# EAGLE library part AT89C55WD-24PU (library Fuckboiz)
8051 Microprocessor Jeremiah Ohlman
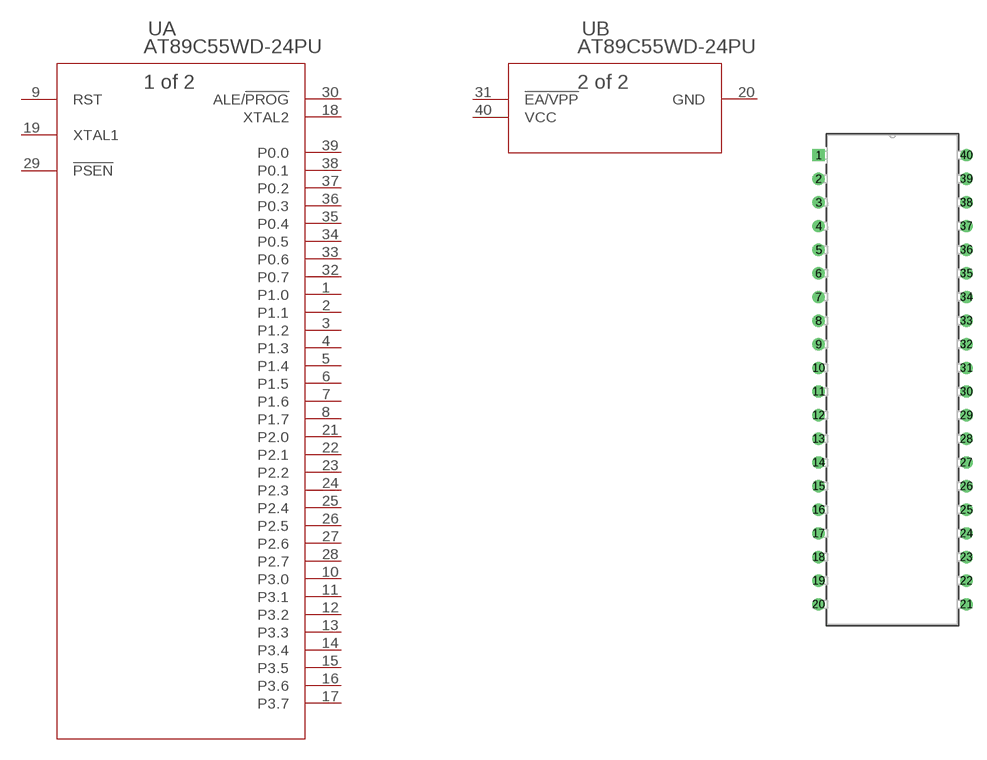
[diagram p8: symbol with the pads of 40P6; footprint 40P6]

Designator prefix U; gates A=AT89C55WD-24PU B=AT89C55WD-24PU_A

## AT89C55WD-24PU (MANUFACTURER_PART_NUMBER: AT89C55WD24PU; VENDOR: ATMEL)  [40P6]
1  A:P1.0
2  A:P1.1
3  A:P1.2
4  A:P1.3
5  A:P1.4
6  A:P1.5
7  A:P1.6
8  A:P1.7
9  A:RST  in
10  A:P3.0
11  A:P3.1
12  A:P3.2
13  A:P3.3
14  A:P3.4
15  A:P3.5
16  A:P3.6
17  A:P3.7
18  A:XTAL2  out
19  A:XTAL1  in
20  B:GND  pwr
21  A:P2.0
22  A:P2.1
23  A:P2.2
24  A:P2.3
25  A:P2.4
26  A:P2.5
27  A:P2.6
28  A:P2.7
29  A:!PSEN  pas
30  A:ALE/!PROG  out
31  B:!EA/VPP
32  A:P0.7
33  A:P0.6
34  A:P0.5
35  A:P0.4
36  A:P0.3
37  A:P0.2
38  A:P0.1
39  A:P0.0
40  B:VCC  pwr

## Footprint 40P6 (pad centres in mm)
drill 0.813 pad 1.321 square: 1 -15.875,48.26
drill 0.813 pad 1.321: 2 -15.875,45.72; 3 -15.875,43.18; 4 -15.875,40.64; 5 -15.875,38.1; 6 -15.875,35.56; 7 -15.875,33.02; 8 -15.875,30.48; 9 -15.875,27.94; 10 -15.875,25.4; 11 -15.875,22.86; 12 -15.875,20.32; 13 -15.875,17.78; 14 -15.875,15.24; 15 -15.875,12.7; 16 -15.875,10.16; 17 -15.875,7.62; 18 -15.875,5.08; 19 -15.875,2.54; 20 -15.875,0; 21 0,0; 22 0,2.54; 23 0,5.08; 24 0,7.62; 25 0,10.16; 26 0,12.7; 27 0,15.24; 28 0,17.78; 29 0,20.32; 30 0,22.86; 31 0,25.4; 32 0,27.94; 33 0,30.48; 34 0,33.02; 35 0,35.56; 36 0,38.1; 37 0,40.64; 38 0,43.18; 39 0,45.72; 40 0,48.26